# EAGLE library part DISP_SEGMENT_4DIGIT_TIME (library microbuilder)
4-Digit 7-Segment Display with colon and AM/PM dots - Common Cathode
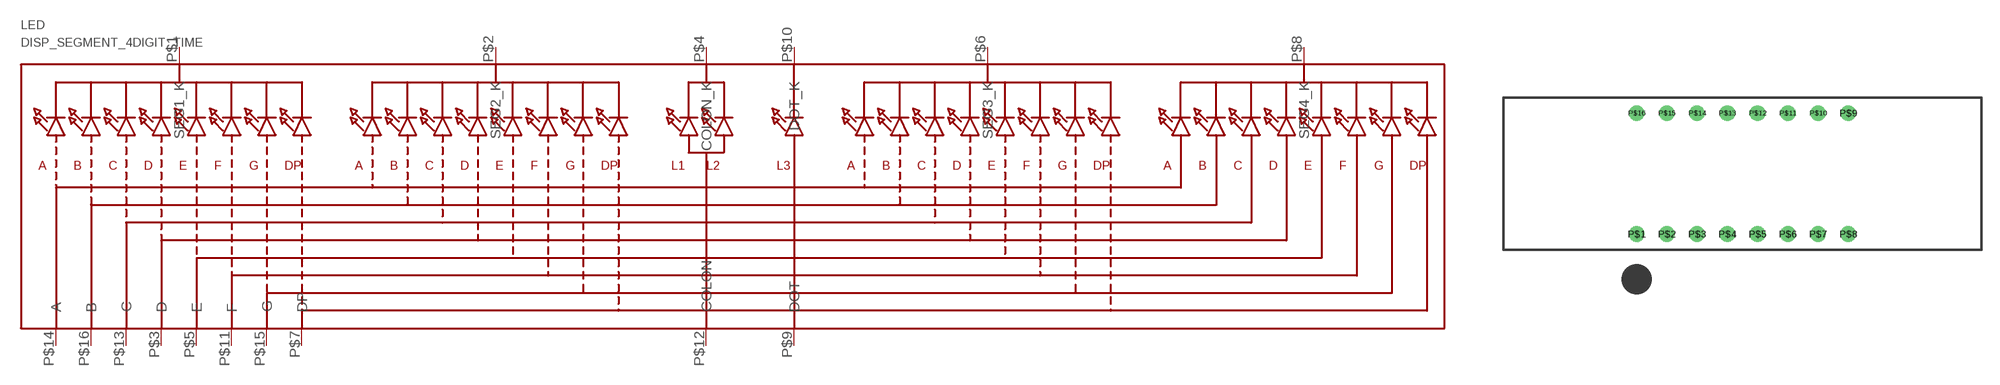
[diagram p168: symbol with the pads of SEGMENT_BL-Q39A-42; footprint SEGMENT_BL-Q39A-42]

Designator prefix LED

## DISP_SEGMENT_4DIGIT_TIME  [SEGMENT_BL-Q39A-42]
P$1  SEG1_K
P$2  SEG2_K
P$3  D
P$4  COLON_K
P$5  E
P$6  SEG3_K
P$7  DP
P$8  SEG4_K
P$9  DOT
P$10  DOT_K
P$11  F
P$12  COLON
P$13  C
P$14  A
P$15  G
P$16  B

## Footprint SEGMENT_BL-Q39A-42 (pad centres in mm)
drill 0.8: P$1 -8.89,-5.08; P$2 -6.35,-5.08; P$3 -3.81,-5.08; P$4 -1.27,-5.08; P$5 1.27,-5.08; P$6 3.81,-5.08; P$7 6.35,-5.08; P$8 8.89,-5.08; P$9 8.89,5.08; P$10 6.35,5.08; P$11 3.81,5.08; P$12 1.27,5.08; P$13 -1.27,5.08; P$14 -3.81,5.08; P$15 -6.35,5.08; P$16 -8.89,5.08